# Altium schematic symbol library watch.SchLib: 3 symbols
Pins are listed as number, name and electrical type; pins without a type are passive.

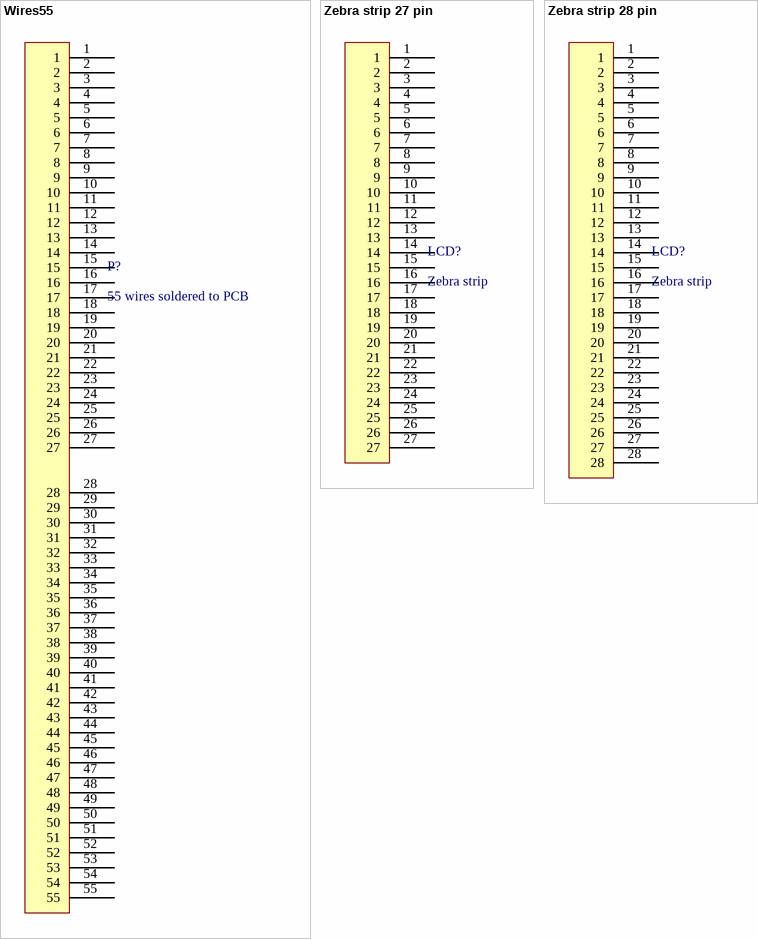
[diagram p0: symbols Wires55 to Zebra strip 28 pin]

## Wires55
designator P?, comment 55 wires soldered to PCB
footprint Wires55 (20mm diameter connection for 55 pins)
pins: 1, 2, 3, 4, 5, 6, 7, 8, 9, 10, 11, 12, 13, 14, 15, 16, 17, 18, 19, 20, 21, 22, 23, 24, 25, 26, 27, 28, 29, 30, 31, 32, 33, 34, 35, 36, 37, 38, 39, 40, 41, 42, 43, 44, 45, 46, 47, 48, 49, 50, 51, 52, 53, 54, 55

## Zebra strip 27 pin
designator LCD?, comment Zebra strip
Zebra strip connector to LCD module (27 pins)
footprint LCD_Connector_27 (27-pin LCD zebra strip connector, 0.55mm pitch)
pins: 1, 2, 3, 4, 5, 6, 7, 8, 9, 10, 11, 12, 13, 14, 15, 16, 17, 18, 19, 20, 21, 22, 23, 24, 25, 26, 27

## Zebra strip 28 pin
designator LCD?, comment Zebra strip
Zebra strip connector to LCD module (28 pins)
footprint LCD_Connector_28 (28-pin LCD zebra strip connector, 0.55mm pitch)
pins: 1, 2, 3, 4, 5, 6, 7, 8, 9, 10, 11, 12, 13, 14, 15, 16, 17, 18, 19, 20, 21, 22, 23, 24, 25, 26, 27, 28